# EAGLE library part C7021214 (library con-amphenol)
AMPHENOL CONNECTOR
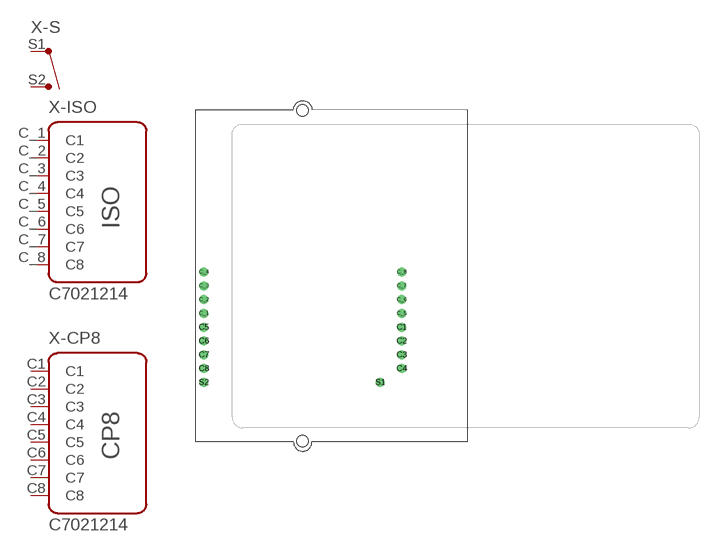
[diagram p0: symbol with the pads of C7021214; footprint C7021214]

Designator prefix X; gates -S=S -ISO=ISO8 -CP8=CP8

## C7021214 (OC_FARNELL: unknown; OC_NEWARK: unknown)  [C7021214]
C1  -CP8:C1  pas
C2  -CP8:C2  pas
C3  -CP8:C3  pas
C4  -CP8:C4  pas
C5  -CP8:C5  pas
C6  -CP8:C6  pas
C7  -CP8:C7  pas
C8  -CP8:C8  pas
C_1  -ISO:C1  pas
C_2  -ISO:C2  pas
C_3  -ISO:C3  pas
C_4  -ISO:C4  pas
C_5  -ISO:C5  pas
C_6  -ISO:C6  pas
C_7  -ISO:C7  pas
C_8  -ISO:C8  pas
S1  -S:S1  pas
S2  -S:S2  pas

## Footprint C7021214 (pad centres in mm)
AMPHENOL CONNECTOR
drill 1.1 round: C1 18.2,-9.46; C2 18.2,-12; C3 18.2,-14.54; C4 18.2,-17.08; C5 -18.2,-9.46; C6 -18.2,-12; C7 -18.2,-14.54; C8 -18.2,-17.08; C_1 -18.2,-6.92; C_2 -18.2,-4.38; C_3 -18.2,-1.84; C_4 -18.2,0.7; C_5 18.2,-6.92; C_6 18.2,-4.38; C_7 18.2,-1.84; C_8 18.2,0.7; S1 14.3,-19.62; S2 -18.2,-19.62
hole 2.1 at 0,-30.45
hole 2.1 at 0,30.45